# EAGLE library part PS2501-4 (library 0_ECET)
OPTOISOLTR 5KV 4CH TRANS 16-SMD Check availability <https://pricing.snapeda.com/parts/PS2501L-4-A/NEC/CEL/view-part?ref=eda>
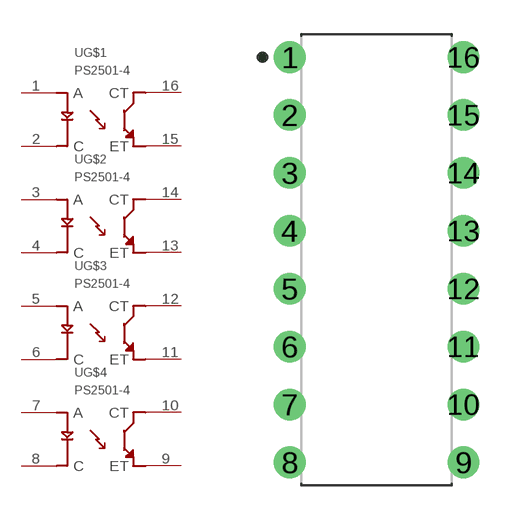
[diagram p0: symbol with the pads of DIP762W53P254L1980H415Q16B; footprint DIP762W53P254L1980H415Q16B]

Designator prefix U; gates G$1=PS2501 G$2=PS2501 G$3=PS2501 G$4=PS2501

## PS2501-4  [DIP762W53P254L1980H415Q16B]
1  G$1:A  pas
2  G$1:C  pas
3  G$2:A  pas
4  G$2:C  pas
5  G$3:A  pas
6  G$3:C  pas
7  G$4:A  pas
8  G$4:C  pas
9  G$4:ET  pas
10  G$4:CT  pas
11  G$3:ET  pas
12  G$3:CT  pas
13  G$2:ET  pas
14  G$2:CT  pas
15  G$1:ET  pas
16  G$1:CT  pas

## Footprint DIP762W53P254L1980H415Q16B (pad centres in mm)
16-DIP, 2.54 mm (0.10 in) pitch, 7.62 mm (0.30 in) span, 19.80 X 6.60 X 4.15 mm body 16-pin DIP package with 2.54 mm (0.10 in) pitch, 7.62 mm (0.30 in) span with body size 19.80 X 6.60 X 4.15 mm
drill 0.786 pad 1.386: 1 -3.81,8.89; 2 -3.81,6.35; 3 -3.81,3.81; 4 -3.81,1.27; 5 -3.81,-1.27; 6 -3.81,-3.81; 7 -3.81,-6.35; 8 -3.81,-8.89; 9 3.81,-8.89; 10 3.81,-6.35; 11 3.81,-3.81; 12 3.81,-1.27; 13 3.81,1.27; 14 3.81,3.81; 15 3.81,6.35; 16 3.81,8.89